# Altium footprint library GOSTCapacitor.PcbLib: 17 footprints (part 1 of 2)
Each footprint in its own frame and in the unit in brackets; x right, y up, seen from the top. Pads: shape width x height; smd on the part's side, far side on the other; paste and mask are expansions set on the pad; w line width, h text height; cw(c..) or ccw(c..) is an arc to the next point about the centre after c.
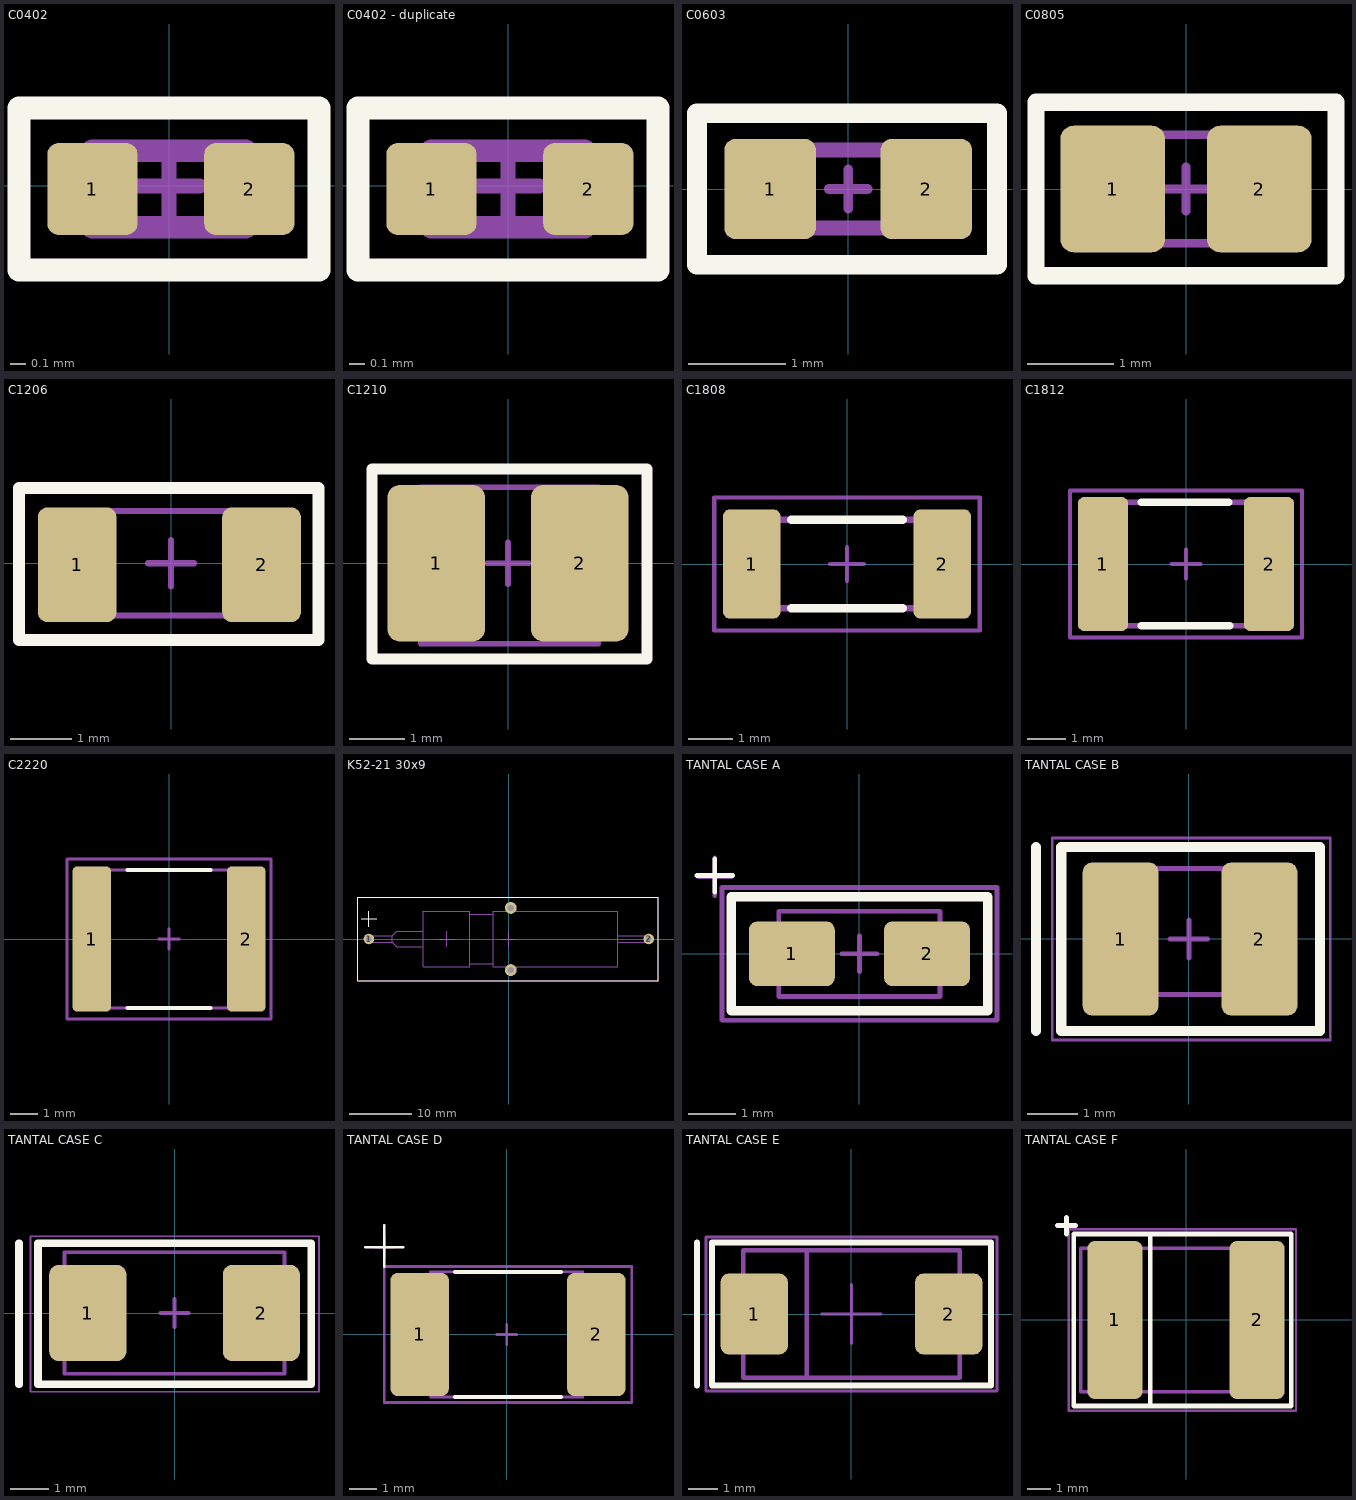
[diagram p0: the footprints below, top view; thin cyan lines are the x and y axes]

## C0402 [mm]
pads (2):
  rrect25% 0.59x0.6 smd: 1(-0.5,-0.02) 2(0.525,-0.02)
Top Overlay:
  lines w0.15: -0.98,-0.55 -0.98,0.51 0.98,0.51 0.98,-0.55 -0.98,-0.55
Mechanical 7:
  lines w0.15: -0.5,-0.27 0.5,-0.27 0.5,0.23 -0.5,0.23 -0.5,-0.27
Mechanical 9:
  text ".Designator" at -3.4,1.2 h3
Mechanical 10:
  text ".Comment" at -2.5,-2 h2
Mechanical 15:
  lines w0.1: -0.2,0 0.2,0 ; 0,-0.2 0,0.2 ; -0.98,-0.55 -0.98,0.51 0.98,0.51 0.98,-0.55 -0.98,-0.55
3D body "User Library-C0402-1.step": height 0.48, standoff -0.01, extent -0.49,-0.254 0.506,0.246

## C0402 - duplicate [mm]
pads (2):
  rrect25% 0.59x0.6 smd: 1(-0.5,-0.02) 2(0.525,-0.02)
Top Overlay:
  lines w0.15: -0.98,-0.55 -0.98,0.51 0.98,0.51 0.98,-0.55 -0.98,-0.55
Mechanical 7:
  lines w0.15: -0.5,-0.27 0.5,-0.27 0.5,0.23 -0.5,0.23 -0.5,-0.27
Mechanical 9:
  text ".Designator" at -3.4,1.2 h3
Mechanical 10:
  text ".Comment" at -2.5,-2 h2
Mechanical 15:
  lines w0.1: -0.2,0 0.2,0 ; 0,-0.2 0,0.2 ; -0.98,-0.55 -0.98,0.51 0.98,0.51 0.98,-0.55 -0.98,-0.55
3D body "User Library-C0402-1.step": height 0.48, standoff -0.01, extent -0.49,-0.254 0.506,0.246

## C0603 [mm]
height 0.9
pads (2):
  rrect25% 0.94x1.03 smd: 1(-0.8,0) 2(0.8,0)
Top Overlay:
  lines w0.2: -1.55,-0.775 -1.55,0.775 1.525,0.775 1.525,-0.775 -1.55,-0.775
Mechanical 7:
  lines w0.15: -0.8,-0.4 0.8,-0.4 0.8,0.4 -0.8,0.4 -0.8,-0.4
Mechanical 9:
  text ".Designator" at -4.7,1.7 h3
Mechanical 10:
  text ".Comment" at -2.8,-2.5 h2
Mechanical 15:
  lines w0.1: -1.325,0.725 0,0.725 ; -0.2,0 0.2,0 ; 0,-0.2 0,0.2 ; -1.55,-0.725 -1.55,0.725 1.525,0.725 1.525,-0.725 -1.55,-0.725
3D body "CAPC0603.STEP": height 0.9, standoff 0, extent -0.8,-0.4 0.8,0.4

## C0805 [mm]
height 1.3
pads (2):
  rrect25% 1.21x1.46 smd paste-5: 1(-0.845,0) 2(0.845,0)
Top Overlay:
  lines w0.2: -1.73,-1 -1.73,1 1.73,1 1.73,-1 -1.73,-1
Top Paste:
  region: 1.3,0.73 0.39,0.73 0.36,0.73 0.305,0.707 0.263,0.665 0.24,0.61 0.24,0.58 0.48,0 0.24,-0.58 0.24,-0.61 0.263,-0.665 0.305,-0.707 0.36,-0.73 0.39,-0.73 1.3,-0.73 1.33,-0.73 1.385,-0.707 1.427,-0.665 1.45,-0.61 1.45,-0.58 1.45,0.58 1.45,0.61 1.427,0.665 1.385,0.707 1.33,0.73
  region: -1.3,0.73 -0.39,0.73 -0.36,0.73 -0.305,0.707 -0.263,0.665 -0.24,0.61 -0.24,0.58 -0.48,0 -0.24,-0.58 -0.24,-0.61 -0.263,-0.665 -0.305,-0.707 -0.36,-0.73 -0.39,-0.73 -1.3,-0.73 -1.33,-0.73 -1.385,-0.707 -1.427,-0.665 -1.45,-0.61 -1.45,-0.58 -1.45,0.58 -1.45,0.61 -1.427,0.665 -1.385,0.707 -1.33,0.73
Mechanical 7:
  lines w0.1: -1,-0.625 1,-0.625 1,0.625 -1,0.625 -1,-0.625
Mechanical 9:
  text ".Designator" at -4.5,1.7 h3
Mechanical 10:
  text ".Comment" at -3.05,-2.6 h2
Mechanical 15:
  lines w0.05: -1.73,-0.93 1.73,-0.93 1.73,0.93 -1.73,0.93 -1.73,-0.93
  lines w0.1: -0.254,0 0.254,0 ; 0,-0.254 0,0.254
3D body "CAP0805.STEP": height 0.78, standoff 0, extent -1,-0.625 1,0.625

## C1206 [mm]
height 1.5
pads (2):
  rrect25% 1.28x1.87 smd: 1(-1.528,-0.024) 2(1.472,-0.024)
Top Overlay:
  lines w0.2: -2.475,-1.25 -2.475,1.225 2.4,1.225 2.4,-1.25 -2.475,-1.25
Mechanical 7:
  lines w0.1: -1.603,-0.849 1.597,-0.849 1.597,0.851 -1.603,0.849 -1.603,-0.849
Mechanical 9:
  text ".Designator" at -4.75,2 h3
Mechanical 10:
  text ".Comment" at -3.128,-2.9 h2
Mechanical 15:
  lines w0.05: -2.475,-1.25 2.4,-1.25 2.4,1.225 -2.475,1.225 -2.475,-1.25
  lines w0.1: -0.375,0 0.375,0 ; 0,-0.375 0,0.375
3D body "SMD_1206.step": height 1.75, standoff 0.25, extent -1.603,-0.849 1.597,0.851

## C1210 [mm]
height 2.5
pads (2):
  rrect25% 1.76x2.82 smd paste-5: 1(-1.295,0) 2(1.295,0)
Top Overlay:
  lines w0.2: -2.455,-1.725 -2.455,1.7 2.505,1.7 2.505,-1.725 -2.455,-1.725
Top Paste:
  region: -1.96,1.41 -0.635,1.41 -0.591,1.41 -0.51,1.376 -0.449,1.315 -0.415,1.234 -0.415,1.19 -0.765,-0.01 -0.415,-1.195 -0.415,-1.238 -0.448,-1.317 -0.508,-1.377 -0.587,-1.41 -0.63,-1.41 -1.955,-1.41 -1.999,-1.41 -2.08,-1.376 -2.141,-1.315 -2.175,-1.234 -2.175,-1.19 -2.175,1.195 -2.175,1.238 -2.142,1.317 -2.082,1.377 -2.003,1.41
  region: 1.96,1.41 0.635,1.41 0.591,1.41 0.51,1.376 0.449,1.315 0.415,1.234 0.415,1.19 0.765,-0.01 0.415,-1.195 0.415,-1.238 0.448,-1.317 0.508,-1.377 0.587,-1.41 0.63,-1.41 1.955,-1.41 1.999,-1.41 2.08,-1.376 2.141,-1.315 2.175,-1.234 2.175,-1.19 2.175,1.195 2.175,1.238 2.142,1.317 2.082,1.377 2.003,1.41
Mechanical 7:
  lines w0.1: -1.575,-1.45 1.625,-1.45 1.625,1.375 -1.575,1.375 -1.575,-1.45
Mechanical 9:
  text ".Designator" at -4.75,2.5 h3
Mechanical 10:
  text ".Comment" at -3.3,-3.5 h2
Mechanical 15:
  lines w0.1: -0.375,0 0.375,0 ; 0,-0.375 0,0.375 ; -2.455,-1.725 2.505,-1.725 2.505,1.7 -2.455,1.7 -2.455,-1.725
3D body "SMD_1210.step": height 1.65, standoff -0.05, extent -1.625,-1.275 1.575,1.225

## C1808 [mm]
height 1.7
pads (2):
  rrect25% 1.3x2.47 smd: 1(-2.15,0) 2(2.15,0)
Top Overlay:
  lines w0.2: -1.25,-1 1.25,-1 ; -1.25,1 1.25,1
Mechanical 7:
  lines w0.15: -2.25,-1 -2.25,1 2.25,1 2.25,-1 -2.25,-1
Mechanical 9:
  text ".Designator" at -4.75,2.5 h3
Mechanical 10:
  text ".Comment" at -3.2,-2.9 h2
Mechanical 15:
  lines w0.1: -0.375,0 0.375,0 ; 0,-0.375 0,0.375 ; -3,-1.5 -3,1.5 3,1.5 3,-1.5 -3,-1.5
3D body "User Library-cap_1808.step": height 2, standoff 0, extent -2.3,-1 2.3,1

## C1812 [mm]
height 1.7
pads (2):
  rrect25% 1.3x3.47 smd: 1(-2.15,0) 2(2.15,0)
Top Overlay:
  lines w0.2: -1.15,-1.6 1.125,-1.6 ; -1.15,1.6 1.1,1.6
Mechanical 7:
  lines w0.15: -2.25,-1.6 2.25,-1.6 2.25,1.6 -2.25,1.6 -2.25,-1.6
Mechanical 9:
  text ".Designator" at -4.75,2.5 h3
Mechanical 10:
  text ".Comment" at -3,-3.5 h2
Mechanical 15:
  lines w0.1: -0.375,0 0.375,0 ; 0,-0.375 0,0.375 ; -3,-1.9 3,-1.9 3,1.9 -3,1.9 -3,-1.9
3D body "User Library-CAPC4532X13.step": height 1.3, standoff 0, extent -2.25,-1.6 2.25,1.6

## C2220 [mm]
height 1.8
pads (2):
  rrect25% 1.4x5.27 smd: 1(-2.8,0) 2(2.8,0)
Top Overlay:
  lines w0.15: -1.5,-2.5 1.5,-2.5 ; -1.5,2.5 1.5,2.5
Mechanical 7:
  lines w0.1: -2.8,-2.5 2.8,-2.5 2.8,2.5 -2.8,2.5 -2.8,-2.5
Mechanical 9:
  text ".Designator" at -4.75,3.75 h3
Mechanical 10:
  text ".Comment" at -3.5,-4.4 h2
Mechanical 15:
  lines w0.1: -0.375,0 0.375,0 ; 0,-0.375 0,0.375 ; -3.7,-2.9 -3.7,2.9 3.7,2.9 3.7,-2.9 -3.7,-2.9
3D body "User Library-CAPC5750X23.step": height 2.3, standoff 0, extent -2.85,-2.5 2.85,2.5

## K52-21 30x9 [mm]
pads (4):
  round 1.7 hole 0.9: 1(-22.5,0) 2(22.5,0)
  round 1.9 hole 1: ""(0.325,-5) ""(0.325,5)
Top Overlay:
  lines w0.1: -24.25,6.75 24,6.75 24,-6.75
  lines w0.2: -24.25,6.75 -24.25,1.25 -24.25,-6.75 24,-6.75 ; -23.75,3.25 -21.25,3.25 ; -22.505,2 -22.505,4.5
Mechanical 11:
  lines w0.2: -22.505,-0.5 -18.75,-0.5 ; -22.505,0.5 -18.75,0.5 ; -13.75,-1.25 -18,-1.25 -18.75,-0.5 ; -13.75,1.25 -18,1.25 -18.75,0.5 ; -11.25,0 -8.75,0 ; -10,-1.25 -10,1.25 ; 17.5,-0.5 22.5,-0.5 ; 17.5,0.5 22.5,0.5 ; -18.75,-0.5 -18.75,0.5 ; -6.25,-4 -2.5,-4 ; -6.25,-4 -6.25,-4.5 -13.75,-4.5 -13.75,4.5 -6.25,4.5 -6.25,4 ; -6.25,-4 -6.25,4 ; -6.25,4 -2.5,4 ; -2.5,-4 -2.5,-4.5 17.5,-4.5 17.5,4.5 -2.5,4.5 -2.5,4 ; -2.5,-4 -2.5,4
Mechanical 15:
  lines w0.1: -24.25,-6.75 24,-6.75 24,6.75 -8.45,6.75 -24.25,6.75 -24.25,-6.75
  lines w0.15: -1.25,0 1.25,0 ; 0,-1.25 0,1.25
3D body "ÊÎÍÄÅÍÑÀÒÎÐ Ê52-21-63Â-220ìêÔ±20% ÀÆßÐ.673543.008ÒÓ.SLDPRT.STEP": height 10, standoff -1.5, extent -22.775,-5.5 22.825,5.5

## TANTAL CASE A [mm]
height 1.6
pads (2):
  rrect25% 1.81x1.36 smd: 1(-1.425,0) 2(1.425,0)
Top Overlay:
  lines w0.1: -3.425,1.65 -2.675,1.65 ; -3.05,1.3 -3.05,2
  lines w0.2: -2.7,-1.2 -2.7,1.2 2.7,1.2 2.7,-1.2 -2.7,-1.2
Mechanical 7:
  lines w0.1: -3.4,1.625 -2.7,1.625 ; -3.05,1.225 -3.05,2.025 ; -1.7,-0.9 -1.7,0.9 1.7,0.9 1.7,-0.9 -1.7,-0.9
Mechanical 9:
  text ".Designator" at -5.125,-4.05 h3
Mechanical 10:
  text ".Comment" at -4.9,-5.9 h2
Mechanical 15:
  lines w0.1: -0.375,0 0.375,0 ; 0,-0.375 0,0.375 ; -2.9,-1.4 -2.9,1.4 2.9,1.4 2.9,-1.4 -2.9,-1.4
3D body "User Library-CAP_TAN_C3216_1206.step": height 1.8, standoff 0, extent -1.7,-0.9 1.7,0.9

## TANTAL CASE B [mm]
height 1.9
pads (2):
  rrect25% 1.5x3.03 smd: 1(-1.35,0) 2(1.4,0)
Top Overlay:
  lines w0.2: -3.025,-1.825 -3.025,1.825 ; -2.525,-1.825 2.6,-1.825 2.6,1.825 -2.525,1.825 -2.525,-1.825
Mechanical 1:
  lines w0.1: -1.575,-1.1 -1.575,1.4 ; 1.625,-1.1 1.625,1.4
Mechanical 7:
  lines w0.1: -1.575,-1.1 1.625,-1.1 1.625,1.4 -1.575,1.4 -1.575,-1.1
Mechanical 9:
  text ".Designator" at -3.4,2.8 h3
Mechanical 10:
  text ".Comment" at -2.6,-3.5 h2
Mechanical 15:
  lines w0.05: -2.7,-2 -2.7,2 2.8,2 2.8,-2 -2.7,-2
  lines w0.1: -0.375,0 0.375,0 ; 0,-0.375 0,0.375
3D body "User Library-CaseB_3528-21.step": height 1.9, standoff 0, extent -1.7,-1.4 1.8,1.4

## TANTAL CASE C [mil]
height 98.43
pads (2):
  rrect25% 80x100 smd: 1(-90,0) 2(90,0)
Top Overlay:
  lines w7.87: -161.36,-73.94 -161.36,72.36 ; -141.67,-73.94 141.75,-73.94 141.75,72.36 -141.67,72.36 -141.67,-73.94
Mechanical 7:
  lines w3.94: -114.17,-62.99 114.17,-62.99 114.17,62.99 -114.17,62.99 -114.17,-62.99
Mechanical 9:
  text ".Designator" at -133.86,102.36 h118.11
Mechanical 10:
  text ".Comment" at -149.61,-157.48 h78.74
Mechanical 15:
  lines w1.97: -149.61,-81.66 -149.61,79.61 149.84,79.61 149.84,-81.66 -149.61,-81.66
  lines w3.94: -14.76,0 14.76,0 ; 0,-14.76 0,14.76
3D body "User Library-Tantalum Size C.STEP": height 102.36, standoff 0, extent -114.17,-62.99 114.18,63

## TANTAL CASE D [mm]
height 2.9
pads (2):
  rrect25% 2.15x4.53 smd: 1(-3.2,0) 2(3.3,0)
Top Overlay:
  lines w0.1: -5.2,3.2 -3.8,3.2 ; -4.5,2.5 -4.5,4
  lines w0.15: -1.9,-2.3 2,-2.3 ; -1.9,2.3 2,2.3
Mechanical 7:
  lines w0.1: -4.85,3.2 -4.15,3.2 ; -4.5,2.8 -4.5,3.6 ; -2.8,-2.3 -2.8,2.3 2.8,2.3 2.8,-2.3 -2.8,-2.3
Mechanical 9:
  text ".Designator" at -4.4,3 h3
Mechanical 10:
  text ".Comment" at -3.4,-4.1 h2
Mechanical 15:
  lines w0.1: -0.375,0 0.375,0 ; 0,-0.375 0,0.375 ; -4.5,-2.5 -4.5,2.5 4.6,2.5 4.6,-2.5 -4.5,-2.5
3D body "User Library-CAP_TANT_7343-40.step": height 4, standoff 0, extent -3.8,-2.3 3.8,2.3

## TANTAL CASE E [mm]
height 4.1
pads (2):
  rrect25% 2.27x2.72 smd: 1(-3.275,0) 2(3.275,0)
Top Overlay:
  lines w0.2: -5.2,-2.4 -5.2,2.4 ; -4.7,-2.4 -4.7,2.4 4.7,2.4 4.7,-2.4 -4.7,-2.4
Mechanical 7:
  lines w0.15: -1.5,-2.15 -1.5,2.15 ; -3.65,-2.15 -3.65,2.15 3.65,2.15 3.65,-2.15 -3.65,-2.15
Mechanical 9:
  text ".Designator" at -4.2,3 h3
Mechanical 10:
  text ".Comment" at -2.3,-4.2 h2
Mechanical 15:
  lines w0.1: -1,0 1,0 ; 0,-1 0,1 ; -4.9,-2.6 -4.9,2.6 4.9,2.6 4.9,-2.6 -4.9,-2.6
3D body "ECASD91B107M012K00.stp": height 4.5, standoff 0, extent -3.65,-2.15 3.65,2.15

## TANTAL CASE F [mm]
height 4.1
pads (2):
  rrect25% 2.3x6.6 smd: 1(-2.975,0) 2(2.975,0)
Top Overlay:
  lines w0.2: -5.375,3.95 -4.625,3.95 ; -5,3.6 -5,4.3 ; -1.5,-3.6 -1.5,3.6 ; -4.7,-3.6 -4.7,3.6 4.4,3.6 4.4,-3.6 -4.7,-3.6
Mechanical 7:
  lines w0.15: -2,-3 -2,3 ; -4.4,-3 -4.4,3 3,3 3,-3 -4.4,-3
Mechanical 9:
  text ".Designator" at -4.2,4.5 h3
Mechanical 10:
  text ".Comment" at -2.9,-5.5 h2
Mechanical 15:
  lines w0.1: -4.9,-3.8 -4.9,3.8 4.6,3.8 4.6,-3.8 -4.9,-3.8
3D body "User Library-597D-F.step": height 4.7, standoff 0, extent -4.4,-3 3,3